# Altium schematic symbol library module_dc2dc_iso.SchLib: 184 symbols (part 2 of 2)
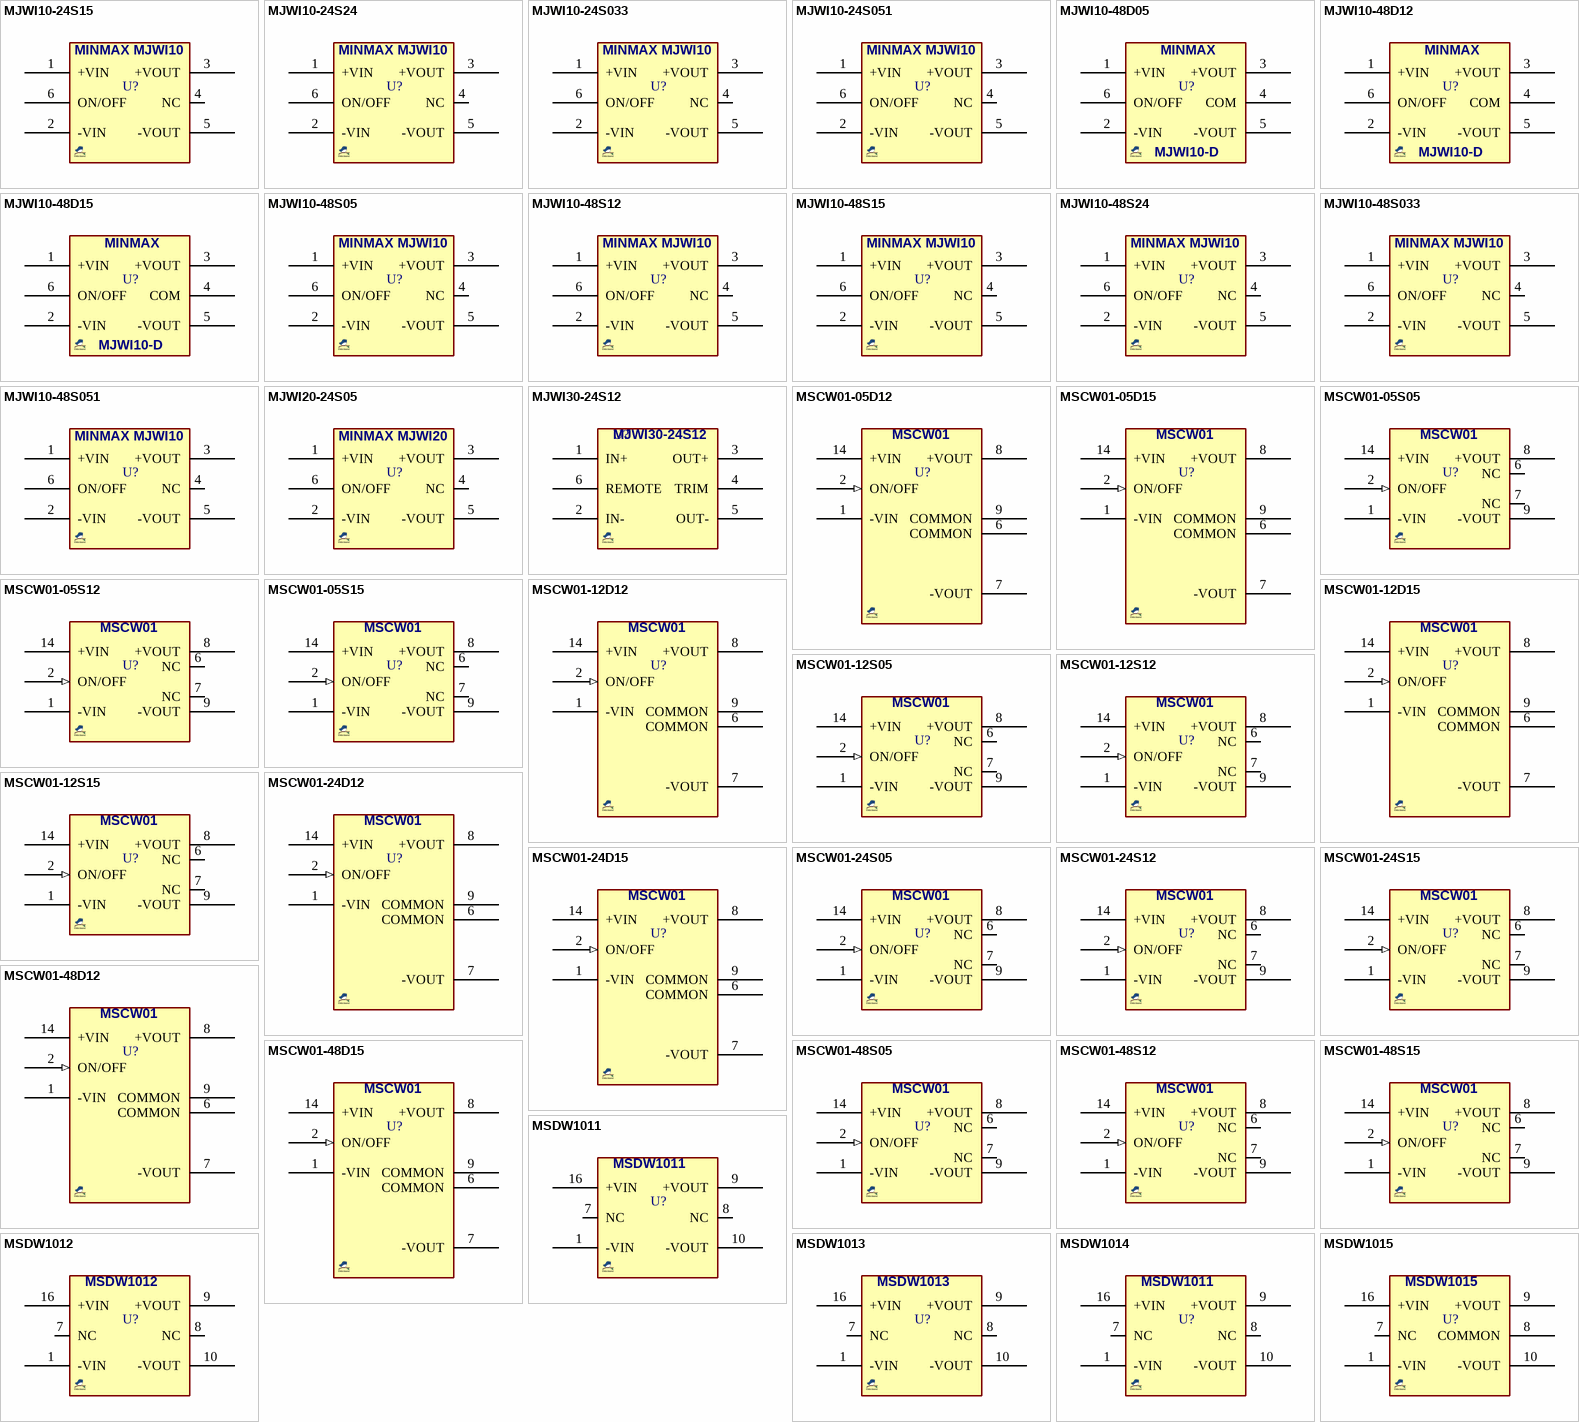
[diagram p5: symbols MJWI10-24S15 to MSDW1015]

## MSDW1011
designator U?  (value not drawn)
DC-DC Converter, Isolated, 2W, MSDW1000; MANF: MinMax; PARAM2: 4.5~9(5)Vin, 3.3Vout, 2W; PARAM: 500mA, -40~85°C; MANF_P#: MSDW1011; VALUE: MSDW1011
footprint MINMAX_MSDW1000 (DC-DC Module, MINMAX MSDW1000)
pins: 1 -VIN, 7 NC, 8 NC, 9 +VOUT, 10 -VOUT, 16 +VIN

## MSDW1012
designator U?  (value not drawn)
DC-DC Converter, Isolated, 2W, MSDW1000; MANF: MinMax; PARAM2: 4.5~9(5)Vin, 5Vout, 2W; PARAM: 400mA, -40~85°C; MANF_P#: MSDW1012; VALUE: MSDW1012
footprint MINMAX_MSDW1000 (DC-DC Module, MINMAX MSDW1000)
pins: 1 -VIN, 7 NC, 8 NC, 9 +VOUT, 10 -VOUT, 16 +VIN

## MSDW1013
designator U?  (value not drawn)
DC-DC Converter, Isolated, 2W, MSDW1000; MANF: MinMax; PARAM2: 4.5~9(5)Vin, 12Vout, 2W; PARAM: 167mA, -40~85°C; MANF_P#: MSDW1013; VALUE: MSDW1013
footprint MINMAX_MSDW1000 (DC-DC Module, MINMAX MSDW1000)
pins: 1 -VIN, 7 NC, 8 NC, 9 +VOUT, 10 -VOUT, 16 +VIN

## MSDW1014
designator U?  (value not drawn)
DC-DC Converter, Isolated, 2W, MSDW1000; MANF: MinMax; PARAM2: 4.5~9(5)Vin, 15Vout, 2W; PARAM: 134mA, -40~85°C; MANF_P#: MSDW1014; VALUE: MSDW1014
footprint MINMAX_MSDW1000 (DC-DC Module, MINMAX MSDW1000)
pins: 1 -VIN, 7 NC, 8 NC, 9 +VOUT, 10 -VOUT, 16 +VIN
text: MSDW1011

## MSDW1015
designator U?  (value not drawn)
DC-DC Converter, Isolated, 2W, MSDW1000; MANF: MinMax; PARAM2: 4.5~9(5)Vin, ±5Vout, 2W; PARAM: ±200mA, -40~85°C; MANF_P#: MSDW1015; VALUE: MSDW1015
footprint MINMAX_MSDW1000 (DC-DC Module, MINMAX MSDW1000)
pins: 1 -VIN, 7 NC, 8 COMMON, 9 +VOUT, 10 -VOUT, 16 +VIN

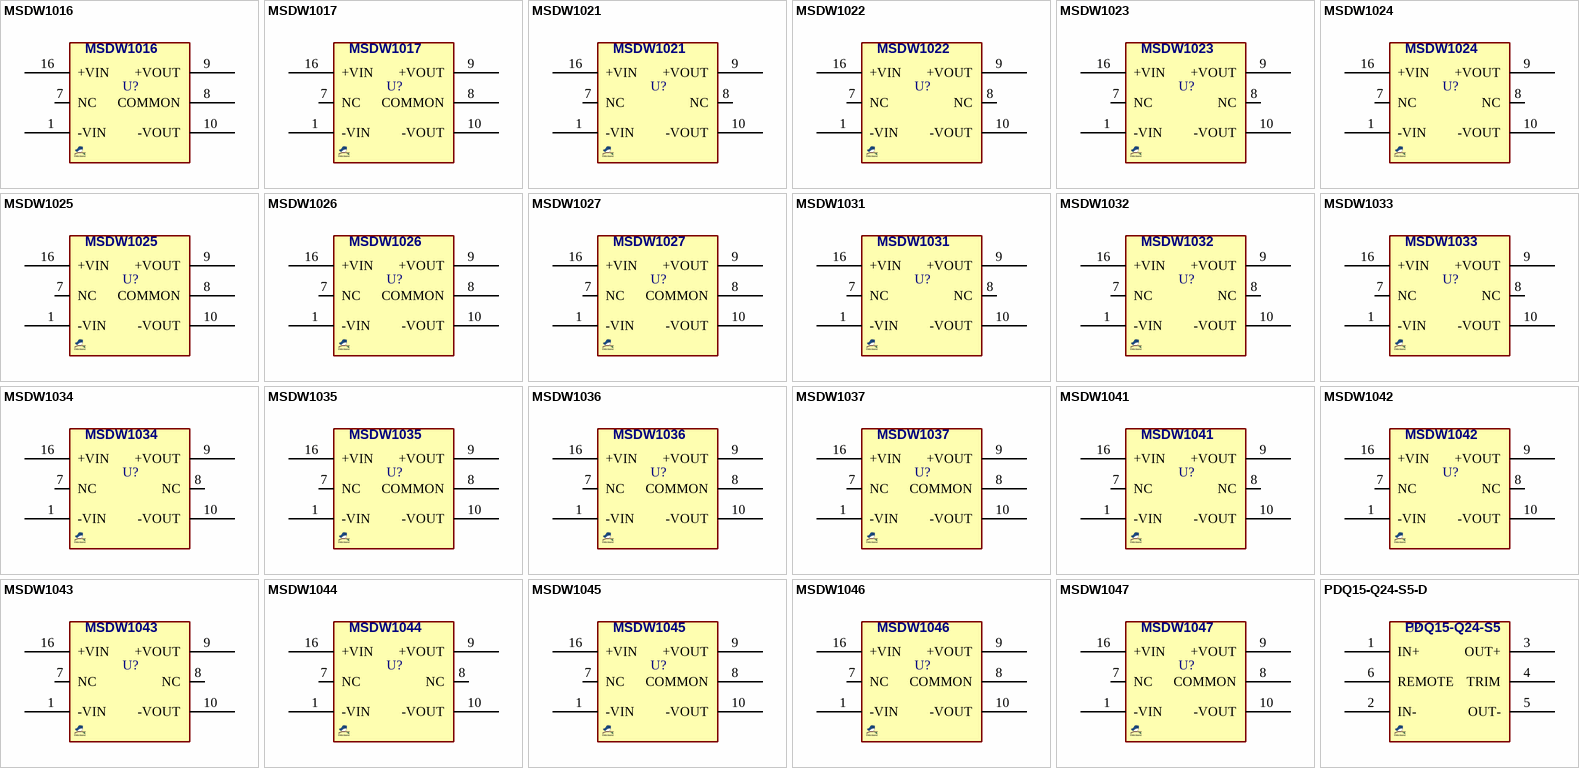
[diagram p4: symbols MSDW1016 to PDQ15-Q24-S5-D]

## MSDW1016
designator U?  (value not drawn)
DC-DC Converter, Isolated, MSDW1000, 2W; MANF: MinMax; PARAM2: 4.5~9(5)Vin, ±12Vout, 2W; PARAM: ±83mA, -40~85°C; MANF_P#: MSDW1016; VALUE: MSDW1016
footprint MINMAX_MSDW1000 (DC-DC Module, MINMAX MSDW1000)
pins: 1 -VIN, 7 NC, 8 COMMON, 9 +VOUT, 10 -VOUT, 16 +VIN

## MSDW1017
designator U?  (value not drawn)
DC-DC Converter, Isolated, MSDW1000, 2W; MANF: MinMax; PARAM2: 4.5~9(5)Vin, ±15Vout, 2W; PARAM: ±67mA, -40~85°C; MANF_P#: MSDW1017; VALUE: MSDW1017
footprint MINMAX_MSDW1000 (DC-DC Module, MINMAX MSDW1000)
pins: 1 -VIN, 7 NC, 8 COMMON, 9 +VOUT, 10 -VOUT, 16 +VIN

## MSDW1021
designator U?  (value not drawn)
DC-DC Converter, Isolated, MSDW1000, 2W; MANF: MinMax; PARAM2: 9~18(12)Vin, 3.3Vout, 2W; PARAM: 500mA, -40~85°C; MANF_P#: MSDW1021; VALUE: MSDW1021
footprint MINMAX_MSDW1000 (DC-DC Module, MINMAX MSDW1000)
pins: 1 -VIN, 7 NC, 8 NC, 9 +VOUT, 10 -VOUT, 16 +VIN

## MSDW1022
designator U?  (value not drawn)
DC-DC Converter, Isolated, MSDW1000, 2W; MANF: MinMax; PARAM2: 9~18(12)Vin, 5Vout, 2W; PARAM: 400mA, -40~85°C; MANF_P#: MSDW1022; VALUE: MSDW1022
footprint MINMAX_MSDW1000 (DC-DC Module, MINMAX MSDW1000)
pins: 1 -VIN, 7 NC, 8 NC, 9 +VOUT, 10 -VOUT, 16 +VIN

## MSDW1023
designator U?  (value not drawn)
DC-DC Converter, Isolated, MSDW1000, 2W; MANF: MinMax; PARAM2: 9~18(12)Vin, 12Vout, 2W; PARAM: 167mA, -40~85°C; MANF_P#: MSDW1023; VALUE: MSDW1023
footprint MINMAX_MSDW1000 (DC-DC Module, MINMAX MSDW1000)
pins: 1 -VIN, 7 NC, 8 NC, 9 +VOUT, 10 -VOUT, 16 +VIN

## MSDW1024
designator U?  (value not drawn)
DC-DC Converter, Isolated, MSDW1000, 2W; MANF: MinMax; PARAM2: 9~18(12)Vin, 15Vout, 2W; PARAM: 134mA, -40~85°C; MANF_P#: MSDW1024; VALUE: MSDW1024
footprint MINMAX_MSDW1000 (DC-DC Module, MINMAX MSDW1000)
pins: 1 -VIN, 7 NC, 8 NC, 9 +VOUT, 10 -VOUT, 16 +VIN

## MSDW1025
designator U?  (value not drawn)
DC-DC Converter, Isolated, MSDW1000, 2W; MANF: MinMax; PARAM2: 9~18(12)Vin, ±5Vout, 2W; PARAM: 200mA, -40~85°C; MANF_P#: MSDW1025; VALUE: MSDW1025
footprint MINMAX_MSDW1000 (DC-DC Module, MINMAX MSDW1000)
pins: 1 -VIN, 7 NC, 8 COMMON, 9 +VOUT, 10 -VOUT, 16 +VIN

## MSDW1026
designator U?  (value not drawn)
DC-DC Converter, Isolated, MSDW1000, 2W; MANF: MinMax; PARAM2: 9~18(12)Vin, ±12Vout, 2W; PARAM: ±83mA, -40~85°C; MANF_P#: MSDW1026; VALUE: MSDW1026
footprint MINMAX_MSDW1000 (DC-DC Module, MINMAX MSDW1000)
pins: 1 -VIN, 7 NC, 8 COMMON, 9 +VOUT, 10 -VOUT, 16 +VIN

## MSDW1027
designator U?  (value not drawn)
DC-DC Converter, Isolated, MSDW1000, 2W; MANF: MinMax; PARAM2: 9~18(12)Vin, ±15Vout, 2W; PARAM: ±67mA, -40~85°C; MANF_P#: MSDW1027; VALUE: MSDW1027
footprint MINMAX_MSDW1000 (DC-DC Module, MINMAX MSDW1000)
pins: 1 -VIN, 7 NC, 8 COMMON, 9 +VOUT, 10 -VOUT, 16 +VIN

## MSDW1031
designator U?  (value not drawn)
DC-DC Converter, Isolated, MSDW1000, 2W; MANF: MinMax; PARAM2: 18~36(24)Vin, 3.3Vout, 2W; PARAM: 500mA, -40~85°C; MANF_P#: MSDW1031; VALUE: MSDW1031
footprint MINMAX_MSDW1000 (DC-DC Module, MINMAX MSDW1000)
pins: 1 -VIN, 7 NC, 8 NC, 9 +VOUT, 10 -VOUT, 16 +VIN

## MSDW1032
designator U?  (value not drawn)
DC-DC Converter, Isolated, MSDW1000, 2W; MANF: MinMax; PARAM2: 18~36(24)Vin, 5Vout, 2W; PARAM: 400mA, -40~85°C; MANF_P#: MSDW1032; VALUE: MSDW1032
footprint MINMAX_MSDW1000 (DC-DC Module, MINMAX MSDW1000)
pins: 1 -VIN, 7 NC, 8 NC, 9 +VOUT, 10 -VOUT, 16 +VIN

## MSDW1033
designator U?  (value not drawn)
DC-DC Converter, Isolated, MSDW1000, 2W; MANF: MinMax; PARAM2: 18~36(24)Vin, 12Vout, 2W; PARAM: 167mA, -40~85°C; MANF_P#: MSDW1033; VALUE: MSDW1033
footprint MINMAX_MSDW1000 (DC-DC Module, MINMAX MSDW1000)
pins: 1 -VIN, 7 NC, 8 NC, 9 +VOUT, 10 -VOUT, 16 +VIN

## MSDW1034
designator U?  (value not drawn)
DC-DC Converter, Isolated, MSDW1000, 2W; MANF: MinMax; PARAM2: 18~36(24)Vin, 15Vout, 2W; PARAM: 134mA, -40~85°C; MANF_P#: MSDW1034; VALUE: MSDW1034
footprint MINMAX_MSDW1000 (DC-DC Module, MINMAX MSDW1000)
pins: 1 -VIN, 7 NC, 8 NC, 9 +VOUT, 10 -VOUT, 16 +VIN

## MSDW1035
designator U?  (value not drawn)
DC-DC Converter, Isolated, MSDW1000, 2W; MANF: MinMax; PARAM2: 18~36(24)Vin, ±5Vout, 2W; PARAM: ±200mA, -40~85°C; MANF_P#: MSDW1035; VALUE: MSDW1035
footprint MINMAX_MSDW1000 (DC-DC Module, MINMAX MSDW1000)
pins: 1 -VIN, 7 NC, 8 COMMON, 9 +VOUT, 10 -VOUT, 16 +VIN

## MSDW1036
designator U?  (value not drawn)
DC-DC Converter, Isolated, MSDW1000, 2W; MANF: MinMax; PARAM2: 18~36(24)Vin, ±12Vout, 2W; PARAM: ±83mA, -40~85°C; MANF_P#: MSDW1036; VALUE: MSDW1036
footprint MINMAX_MSDW1000 (DC-DC Module, MINMAX MSDW1000)
pins: 1 -VIN, 7 NC, 8 COMMON, 9 +VOUT, 10 -VOUT, 16 +VIN

## MSDW1037
designator U?  (value not drawn)
DC-DC Converter, Isolated, MSDW1000, 2W; MANF: MinMax; PARAM2: 18~36(24)Vin, ±15Vout, 2W; PARAM: ±67mA, -40~85°C; MANF_P#: MSDW1037; VALUE: MSDW1037
footprint MINMAX_MSDW1000 (DC-DC Module, MINMAX MSDW1000)
pins: 1 -VIN, 7 NC, 8 COMMON, 9 +VOUT, 10 -VOUT, 16 +VIN

## MSDW1041
designator U?  (value not drawn)
DC-DC Converter, Isolated, MSDW1000, 2W; MANF: MinMax; PARAM2: 36~75(48)Vin, 3.3Vout, 2W; PARAM: 500mA, -40~85°C; MANF_P#: MSDW1041; VALUE: MSDW1041
footprint MINMAX_MSDW1000 (DC-DC Module, MINMAX MSDW1000)
pins: 1 -VIN, 7 NC, 8 NC, 9 +VOUT, 10 -VOUT, 16 +VIN

## MSDW1042
designator U?  (value not drawn)
DC-DC Converter, Isolated, MSDW1000, 2W; MANF: MinMax; PARAM2: 36~75(48)Vin, 5Vout, 2W; PARAM: 400mA, -40~85°C; MANF_P#: MSDW1042; VALUE: MSDW1042
footprint MINMAX_MSDW1000 (DC-DC Module, MINMAX MSDW1000)
pins: 1 -VIN, 7 NC, 8 NC, 9 +VOUT, 10 -VOUT, 16 +VIN

## MSDW1043
designator U?  (value not drawn)
DC-DC Converter, Isolated, MSDW1000, 2W; MANF: MinMax; PARAM2: 36~75(48)Vin, 12Vout, 2W; PARAM: 167mA, -40~85°C; MANF_P#: MSDW1043; VALUE: MSDW1043
footprint MINMAX_MSDW1000 (DC-DC Module, MINMAX MSDW1000)
pins: 1 -VIN, 7 NC, 8 NC, 9 +VOUT, 10 -VOUT, 16 +VIN

## MSDW1044
designator U?  (value not drawn)
DC-DC Converter, Isolated, MSDW1000, 2W; MANF: MinMax; PARAM2: 36~75(48)Vin, 15Vout, 2W; PARAM: 134mA, -40~85°C; MANF_P#: MSDW1044; VALUE: MSDW1044
footprint MINMAX_MSDW1000 (DC-DC Module, MINMAX MSDW1000)
pins: 1 -VIN, 7 NC, 8 NC, 9 +VOUT, 10 -VOUT, 16 +VIN

## MSDW1045
designator U?  (value not drawn)
DC-DC Converter, Isolated, MSDW1000, 2W; MANF: MinMax; PARAM2: 36~75(48)Vin, ±5Vout, 2W; PARAM: ±200mA, -40~85°C; MANF_P#: MSDW1045; VALUE: MSDW1045
footprint MINMAX_MSDW1000 (DC-DC Module, MINMAX MSDW1000)
pins: 1 -VIN, 7 NC, 8 COMMON, 9 +VOUT, 10 -VOUT, 16 +VIN

## MSDW1046
designator U?  (value not drawn)
DC-DC Converter, Isolated, MSDW1000, 2W; MANF: MinMax; PARAM2: 36~75(48)Vin, ±12Vout, 2W; PARAM: ±83mA, -40~85°C; MANF_P#: MSDW1046; VALUE: MSDW1046
footprint MINMAX_MSDW1000 (DC-DC Module, MINMAX MSDW1000)
pins: 1 -VIN, 7 NC, 8 COMMON, 9 +VOUT, 10 -VOUT, 16 +VIN

## MSDW1047
designator U?  (value not drawn)
DC-DC Converter, Isolated, MSDW1000, 2W; MANF: MinMax; PARAM2: 36~75(48)Vin, ±15Vout, 2W; PARAM: ±67mA, -40~85°C; MANF_P#: MSDW1047; VALUE: MSDW1047
footprint MINMAX_MSDW1000 (DC-DC Module, MINMAX MSDW1000)
pins: 1 -VIN, 7 NC, 8 COMMON, 9 +VOUT, 10 -VOUT, 16 +VIN

## PDQ15-Q24-S5-D
designator U?  (value not drawn)
DC-DC Converter, Isolated, 15W, 9~36V IN , 3A; MANF: CUI; PARAM2: 9~36V IN, 5Vout, 15Watt; PARAM: 3A, –40~105°C; PRICE: 30$; MANF_P#: PDQ15-Q24-S5-D; VALUE: PDQ15-Q24-S5-D
footprint PDQ15D (DC-DC Module, 25.4X25.4mm, =MJWI10)
pins: 1 IN+ (power), 2 IN- (power), 3 OUT+ (power), 4 TRIM, 5 OUT- (power), 6 REMOTE
text: PDQ15-Q24-S5